# Altium footprint library buck3.PcbLib: 18 footprints (part 1 of 2)
Each footprint in its own frame and in the unit in brackets; x right, y up, seen from the top. Pads: shape width x height; smd on the part's side, far side on the other; paste and mask are expansions set on the pad; w line width, h text height; cw(c..) or ccw(c..) is an arc to the next point about the centre after c.
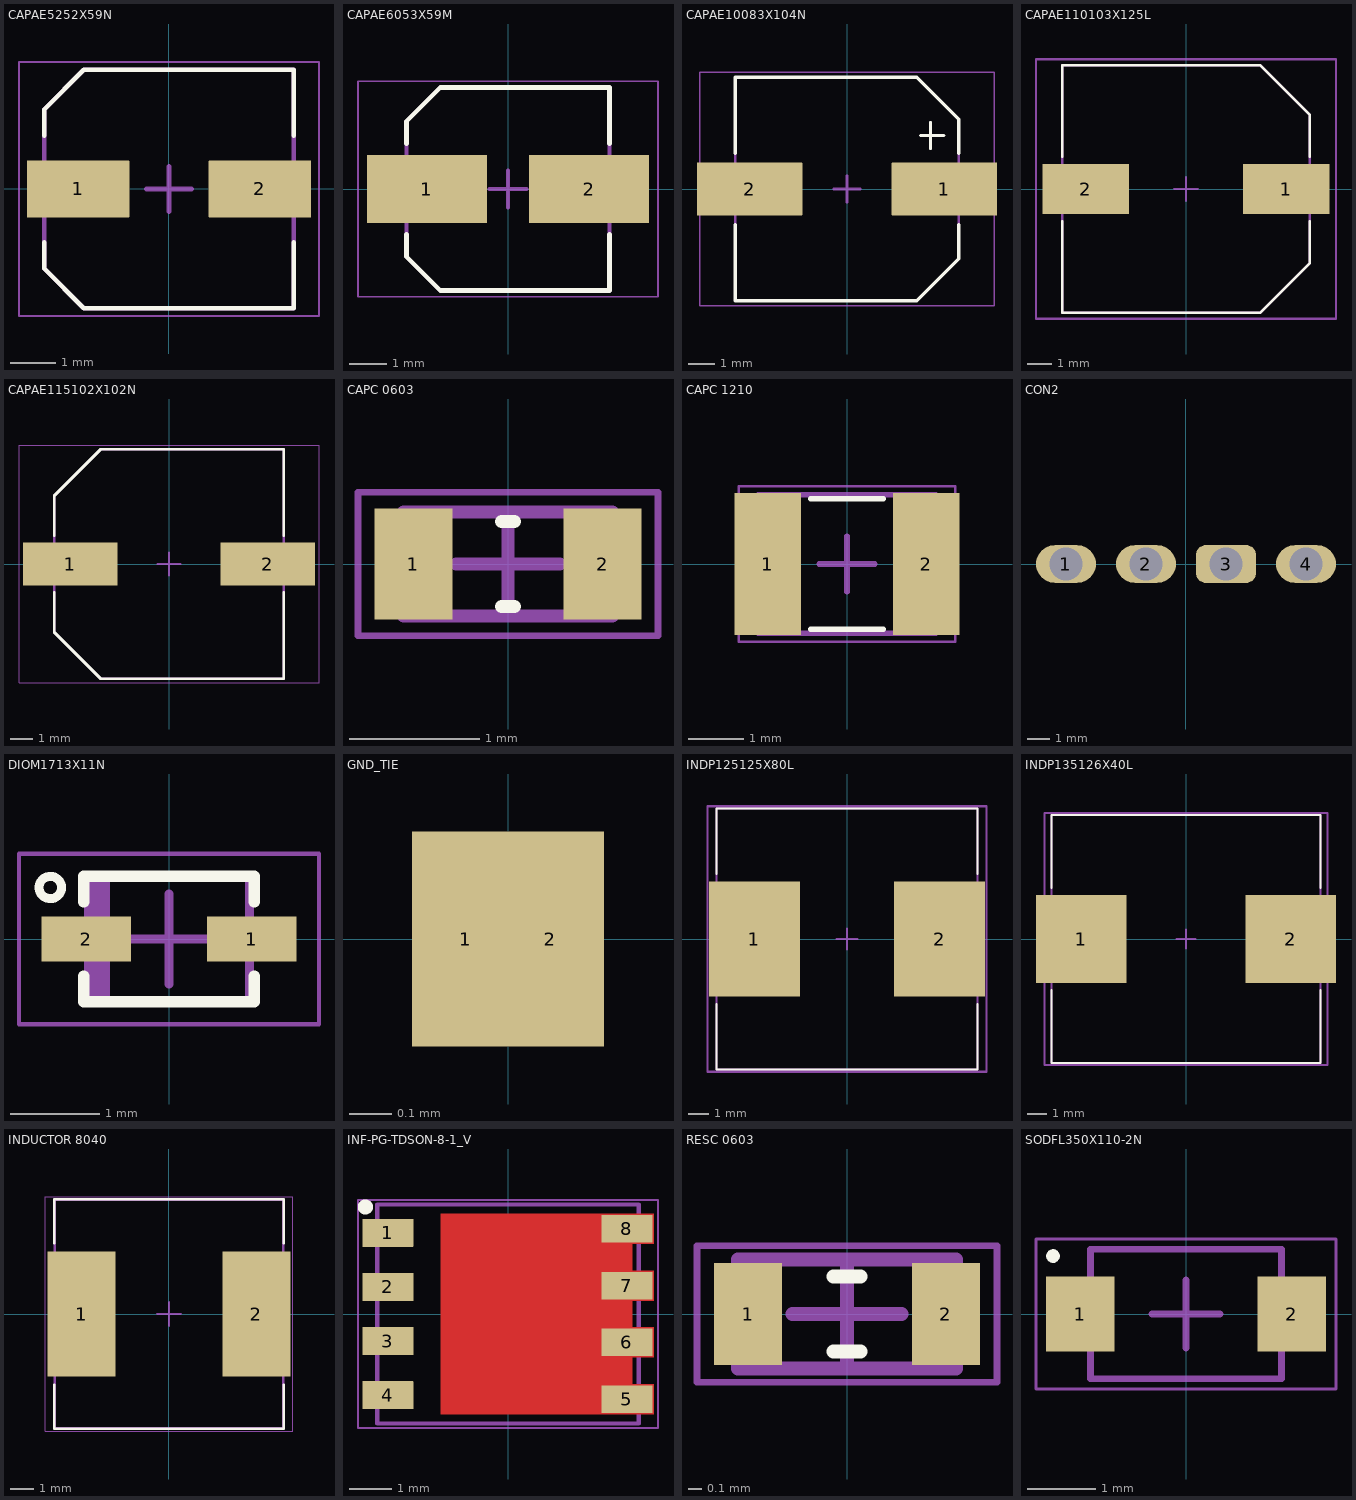
[diagram p0: the footprints below, top view; thin cyan lines are the x and y axes]

## CAPAE5252X59N [mm] "Aluminum Electrolytic Capacitor, Body 5.50x5.25x5.90mm, IPC Medium Density"
height 5.9
pads (2):
  rrect1% 2.25x1.25 smd: 1(-2,0) 2(2,0)
Top Overlay:
  lines w0.102: -2.75,-1.175 -2.75,-1.75 -1.875,-2.625 2.75,-2.625 2.75,-1.175 ; -2.75,1.175 -2.75,1.75 -1.875,2.625 2.75,2.625 2.75,1.175
Mechanical 13:
  lines w0.1: -2.75,-1.75 -2.75,1.75 -1.875,2.625 2.75,2.625 2.75,-2.625 -1.875,-2.625 -2.75,-1.75
Mechanical 15:
  lines w0.05: -3.302,-2.794 3.302,-2.794 3.302,2.794 -3.302,2.794 -3.302,-2.794
  lines w0.1: -0.5,0 0.5,0 ; 0,-0.5 0,0.5
3D body "CAPAE5252X59N.step": height 5.9, standoff 0, extent -2.75,-2.625 2.75,2.625

## CAPAE6053X59M [mm]
pads (2):
  rrect1% 3.25x1.85 smd: 1(-2.2,0) 2(2.2,0)
Top Overlay:
  lines w0.127: -2.75,-1.225 -2.75,-1.837 -1.837,-2.75 2.75,-2.75 2.75,-1.225 ; -2.75,1.225 -2.75,1.837 -1.837,2.75 2.75,2.75 2.75,1.225
Mechanical 13:
  lines w0.1: -2.75,-1.837 -2.75,1.837 -1.837,2.75 2.75,2.75 2.75,-2.75 -1.837,-2.75 -2.75,-1.837
Mechanical 15:
  lines w0.05: -4.064,-2.921 4.064,-2.921 4.064,2.921 -4.064,2.921 -4.064,-2.921
  lines w0.1: -0.5,0 0.5,0 ; 0,-0.5 0,0.5
3D body "CAPAE6053X59M.step": height 5.9, standoff 0, extent -3,-2.75 3,2.75

## CAPAE10083X104N [mm]
pads (2):
  rrect1% 4x2 smd: 1(3.7,0) 2(-3.7,0)
Top Overlay:
  lines w0.102: 2.794,2.032 3.683,2.032 ; 3.175,1.524 3.175,2.54
  lines w0.127: -4.25,-1.35 -4.25,-4.25 2.65,-4.25 4.25,-2.65 4.25,-1.35 ; -4.25,1.35 -4.25,4.25 2.65,4.25 4.25,2.65 4.25,1.35
Mechanical 13:
  lines w0.1: -4.25,-4.25 -4.25,4.25 2.65,4.25 4.25,2.65 4.25,-2.65 2.65,-4.25 -4.25,-4.25
Mechanical 15:
  lines w0.05: -5.588,-4.445 5.588,-4.445 5.588,4.445 -5.588,4.445 -5.588,-4.445
  lines w0.1: -0.5,0 0.5,0 ; 0,-0.5 0,0.5
3D body "CAPAE10083X104N.step": height 10.4, standoff 0, extent -5,-4.25 5,4.25

## CAPAE110103X125L [mm] "Aluminum Electrolytic Capacitor, Body 10.30x10.30x12.50mm, IPC High Density"
height 12.5
pads (2):
  rrect1% 3.6x2.1 smd: 1(4.175,0) 2(-4.175,0)
Top Overlay:
  lines w0.102: -5.15,-1.35 -5.15,-5.15 3.1,-5.15 5.15,-3.1 5.15,-1.35 ; -5.15,1.35 -5.15,5.15 3.1,5.15 5.15,3.1 5.15,1.35
Mechanical 13:
  lines w0.102: -5.15,-5.15 -5.15,5.15 3.1,5.15 5.15,3.1 5.15,-3.1 3.1,-5.15 -5.15,-5.15
Mechanical 15:
  lines w0.1: -0.5,0 0.5,0 ; 0,-0.5 0,0.5
  lines w0.102: -6.25,-5.4 6.25,-5.4 6.25,5.4 -6.25,5.4 -6.25,-5.4
3D body "CAPAE110103X125L.step": height 12.5, standoff 0, extent -5.5,-5.15 5.5,5.15

## CAPAE115102X102N [mm]
pads (2):
  rrect1% 4.25x1.95 smd: 1(-4.425,0) 2(4.425,0)
Top Overlay:
  lines w0.127: -5.15,-1.275 -5.15,-3.063 -3.063,-5.15 5.15,-5.15 5.15,-1.275 ; -5.15,1.275 -5.15,3.062 -3.063,5.15 5.15,5.15 5.15,1.275
Mechanical 13:
  lines w0.1: -5.15,-3.063 -3.063,-5.15 5.15,-5.15 5.15,5.15 -3.063,5.15 -5.15,3.062 -5.15,-3.063
Mechanical 15:
  lines w0.05: -6.731,-5.334 -6.731,5.334 6.731,5.334 6.731,-5.334 -6.731,-5.334
  lines w0.1: -0.5,0 0.5,0 ; 0,-0.5 0,0.5
3D body "CAPAE115102X102N.step": height 10.2, standoff 0, extent -5.775,-5.15 5.775,5.15

## CAPC 0603 [mm] "0603"
pads (2):
  rrect1% 0.6x0.85 smd: 1(-0.725,0) 2(0.725,0)
Top Overlay:
  lines w0.102: -0.05,-0.325 0.05,-0.325 ; -0.05,0.325 0.05,0.325
Mechanical 13:
  lines w0.1: -0.8,-0.4 -0.8,0.4 0.8,0.4 0.8,-0.4 -0.8,-0.4
Mechanical 15:
  lines w0.05: -1.15,-0.55 -1.15,0.55 1.15,0.55 1.15,-0.55 -1.15,-0.55
  lines w0.1: -0.4,0 0.4,0 ; 0,-0.4 0,0.4
3D body "CAPC 0603 1608X05L.step": height 0.45, standoff 0, extent -0.8,-0.4 0.8,0.4

## CAPC 1210 [mm] "1210"
height 1.7
pads (2):
  rrect1% 1.2x2.55 smd: 1(-1.425,0) 2(1.425,0)
Top Overlay:
  lines w0.102: -0.65,-1.175 0.65,-1.175 ; -0.65,1.175 0.65,1.175
Mechanical 13:
  lines w0.1: -1.6,-1.25 -1.6,1.25 1.6,1.25 1.6,-1.25 -1.6,-1.25
Mechanical 15:
  lines w0.05: -1.95,-1.4 -1.95,1.4 1.95,1.4 1.95,-1.4 -1.95,-1.4
  lines w0.1: -0.5,0 0.5,0 ; 0,-0.5 0,0.5
3D body "Ceramic Capacitor 1210.step": height 1.7, standoff 0, extent -1.6,-1.25 1.6,1.25

## CON2 [mm]
pads (4):
  oval 2.7x1.7 hole 1.5 paste+0 mask+0: 1(-5.4,0) 2(-1.8,0) 4(5.4,0)
  rrect50% 2.7x1.7 hole 1.5 paste+0 mask+0: 3(1.8,0)

## DIOM1713X11N [mm] "Molded Diode, 2-Leads, Body 1.70x1.30mm, IPC Medium Density"
height 1.1
pads (2):
  rect 1x0.5 smd: 1(0.925,0) 2(-0.925,0)
Top Overlay:
  circle w0.1: c-1.325,0.575 r0.125
  lines w0.127: -0.95,-0.413 -0.95,-0.7 0.95,-0.7 0.95,-0.413 ; -0.95,0.413 -0.95,0.7 0.95,0.7 0.95,0.413
Mechanical 13:
  rectangle: -0.9,-0.7 -0.658,0.7
  lines w0.1: -0.9,-0.7 0.9,-0.7 0.9,0.7 -0.9,0.7 -0.9,-0.7
Mechanical 15:
  lines w0.05: -1.675,-0.95 1.675,-0.95 1.675,0.95 -1.675,0.95 -1.675,-0.95
  lines w0.1: -0.5,0 0.5,0 ; 0,-0.5 0,0.5
3D body "DIOM1713X11N.step": height 1.1, standoff 0, extent -1.12,-0.7 1.12,0.7

## GND_TIE [mil]
pads (2):
  rrect1% 10x20 smd paste-787.4 mask+0: 1(-3.94,0)
  rrect1% 10x20 smd paste-787.4: 2(3.94,0)

## INDP125125X80L [mm] "Precision Wire Wound Inductor, 2-Leads, Body 12.50x12.50mm, IPC High Density"
height 8
pads (2):
  rect 4.35x5.5 smd: 1(-4.425,0) 2(4.425,0)
Top Overlay:
  lines w0.102: -6.25,-3.101 -6.25,-6.25 6.25,-6.25 6.25,-3.101 ; -6.25,3.101 -6.25,6.25 6.25,6.25 6.25,3.101
Mechanical 13:
  lines w0.1: -6.25,-6.25 -6.25,6.25 6.25,6.25 6.25,-6.25 -6.25,-6.25
Mechanical 15:
  lines w0.1: -0.5,0 0.5,0 ; 0,-0.5 0,0.5
  lines w0.102: -6.675,-6.35 -6.675,6.35 6.675,6.35 6.675,-6.35 -6.675,-6.35
3D body "INDP125125X80L.step": height 8.1, standoff 0, extent -6.35,-6.25 6.35,6.25

## INDP135126X40L [mm] "Precision Wire Wound Inductor, 2-Leads, Body 13.50x12.60mm, IPC High Density"
height 4
pads (2):
  rect 4.7x4.6 smd: 1(-5.458,0) 2(5.458,0)
Top Overlay:
  lines w0.102: -7,-2.651 -7,-6.45 7,-6.45 7,-2.651 ; -7,2.651 -7,6.45 7,6.45 7,2.651
Mechanical 13:
  lines w0.102: -7,-6.45 -7,6.45 7,6.45 7,-6.45 -7,-6.45
Mechanical 15:
  lines w0.1: -0.5,0 0.5,0 ; 0,-0.5 0,0.5
  lines w0.102: -7.375,-6.55 -7.375,6.55 7.375,6.55 7.375,-6.55 -7.375,-6.55
3D body "INDP135126X40L.step": height 4.1, standoff 0, extent -6.85,-6.3 6.85,6.3

## INDUCTOR 8040 [mm]
pads (2):
  rrect1% 2.9x5.35 smd: 1(-3.725,0) 2(3.725,0)
Top Overlay:
  lines w0.102: -4.9,-3.026 -4.9,-4.9 4.9,-4.9 4.9,-3.026 ; -4.9,3.026 -4.9,4.9 4.9,4.9 4.9,3.026
Mechanical 13:
  lines w0.1: -4.875,-4.875 4.875,-4.875 4.875,4.875 -4.875,4.875 -4.875,-4.875
Mechanical 15:
  lines w0.05: -5.275,-5 5.275,-5 5.275,5 -5.275,5 -5.275,-5
  lines w0.1: -0.5,0 0.5,0 ; 0,-0.5 0,0.5
3D body "INDUCTOR 8040.step": height 4.1, standoff 0, extent -4.95,-4.85 4.95,4.85

## INF-PG-TDSON-8-1_V [mm]
pads (8):
  rrect1% 1.2x0.65 smd: 1(-2.825,1.905) 2(-2.825,0.635) 3(-2.825,-0.635) 4(-2.825,-1.905) 5(2.794,-2.007) 6(2.794,-0.66) 7(2.794,0.66) 8(2.794,2.007)
Top Layer:
  region: 2.925,2.35 -1.575,2.35 -1.575,-2.35 2.925,-2.35
  region: 2.925,2.35 2.925,1.65 3.425,1.65 3.425,2.35
  region: 2.925,-1.65 2.925,-2.35 3.425,-2.35 3.425,-1.65
  region: 2.925,1.015 2.925,0.315 3.425,0.315 3.425,1.015
  region: 2.925,-0.315 2.925,-1.015 3.425,-1.015 3.425,-0.315
Top Overlay:
  circle w0.254: c-3.353,2.515 r0.051
Top Paste:
  region: 2.286,2.286 0.635,2.286 0.635,0.127 2.286,0.127
  region: 2.286,-0.127 0.635,-0.127 0.635,-2.286 2.286,-2.286
  region: 0.381,2.286 -1.524,2.286 -1.524,0.127 0.381,0.127
  region: 0.381,-0.127 -1.524,-0.127 -1.524,-2.286 0.381,-2.286
Mechanical 13:
  lines w0.1: -3.075,-2.575 -3.075,2.575 3.075,2.575 3.075,-2.575 -3.075,-2.575
Mechanical 15:
  lines w0.05: -3.525,-2.675 -3.525,2.675 3.525,2.675 3.525,-2.675 -3.525,-2.675
  lines w0.1: -0.5,0 0.5,0 ; 0,-0.5 0,0.5
3D body: height 1, standoff 0, extent -3.075,-2.575 3.075,2.575

## RESC 0603 [mm] "0603"
pads (2):
  rrect1% 0.5x0.75 smd: 1(-0.725,0) 2(0.725,0)
Top Overlay:
  lines w0.102: -0.1,-0.275 0.1,-0.275 ; -0.1,0.275 0.1,0.275
Mechanical 13:
  lines w0.1: -0.8,-0.4 0.8,-0.4 0.8,0.4 -0.8,0.4 -0.8,-0.4
Mechanical 15:
  lines w0.05: -1.1,-0.5 1.1,-0.5 1.1,0.5 -1.1,0.5 -1.1,-0.5
  lines w0.1: -0.4,0 0.4,0 ; 0,-0.4 0,0.4
3D body "RESC 0603 1608X05L.step": height 0.45, standoff 0, extent -0.8,-0.4 0.8,0.4

## SODFL350X110-2N [mm] "SODFL, 2-Leads, Body 1.70x3.50mm, IPC Medium Density"
height 1.1
pads (2):
  rect 1x1.1 smd: 1(-1.55,0) 2(1.55,0)
Top Overlay:
  circle w0.1: c-1.95,0.85 r0.05
Mechanical 13:
  lines w0.1: -1.4,-0.95 -1.4,0.95 1.4,0.95 1.4,-0.95 -1.4,-0.95
Mechanical 15:
  lines w0.05: -2.2,-1.1 -2.2,1.1 2.2,1.1 2.2,-1.1 -2.2,-1.1
  lines w0.1: -0.5,0 0.5,0 ; 0,-0.5 0,0.5
3D body "SODFL350X110-2N.step": height 1.1, standoff 0, extent -1.75,-0.95 1.75,0.95